# Altium integrated library TI Data Converters Analog to Digital Converter.IntLib: 2197 symbols (part 10 of 168)
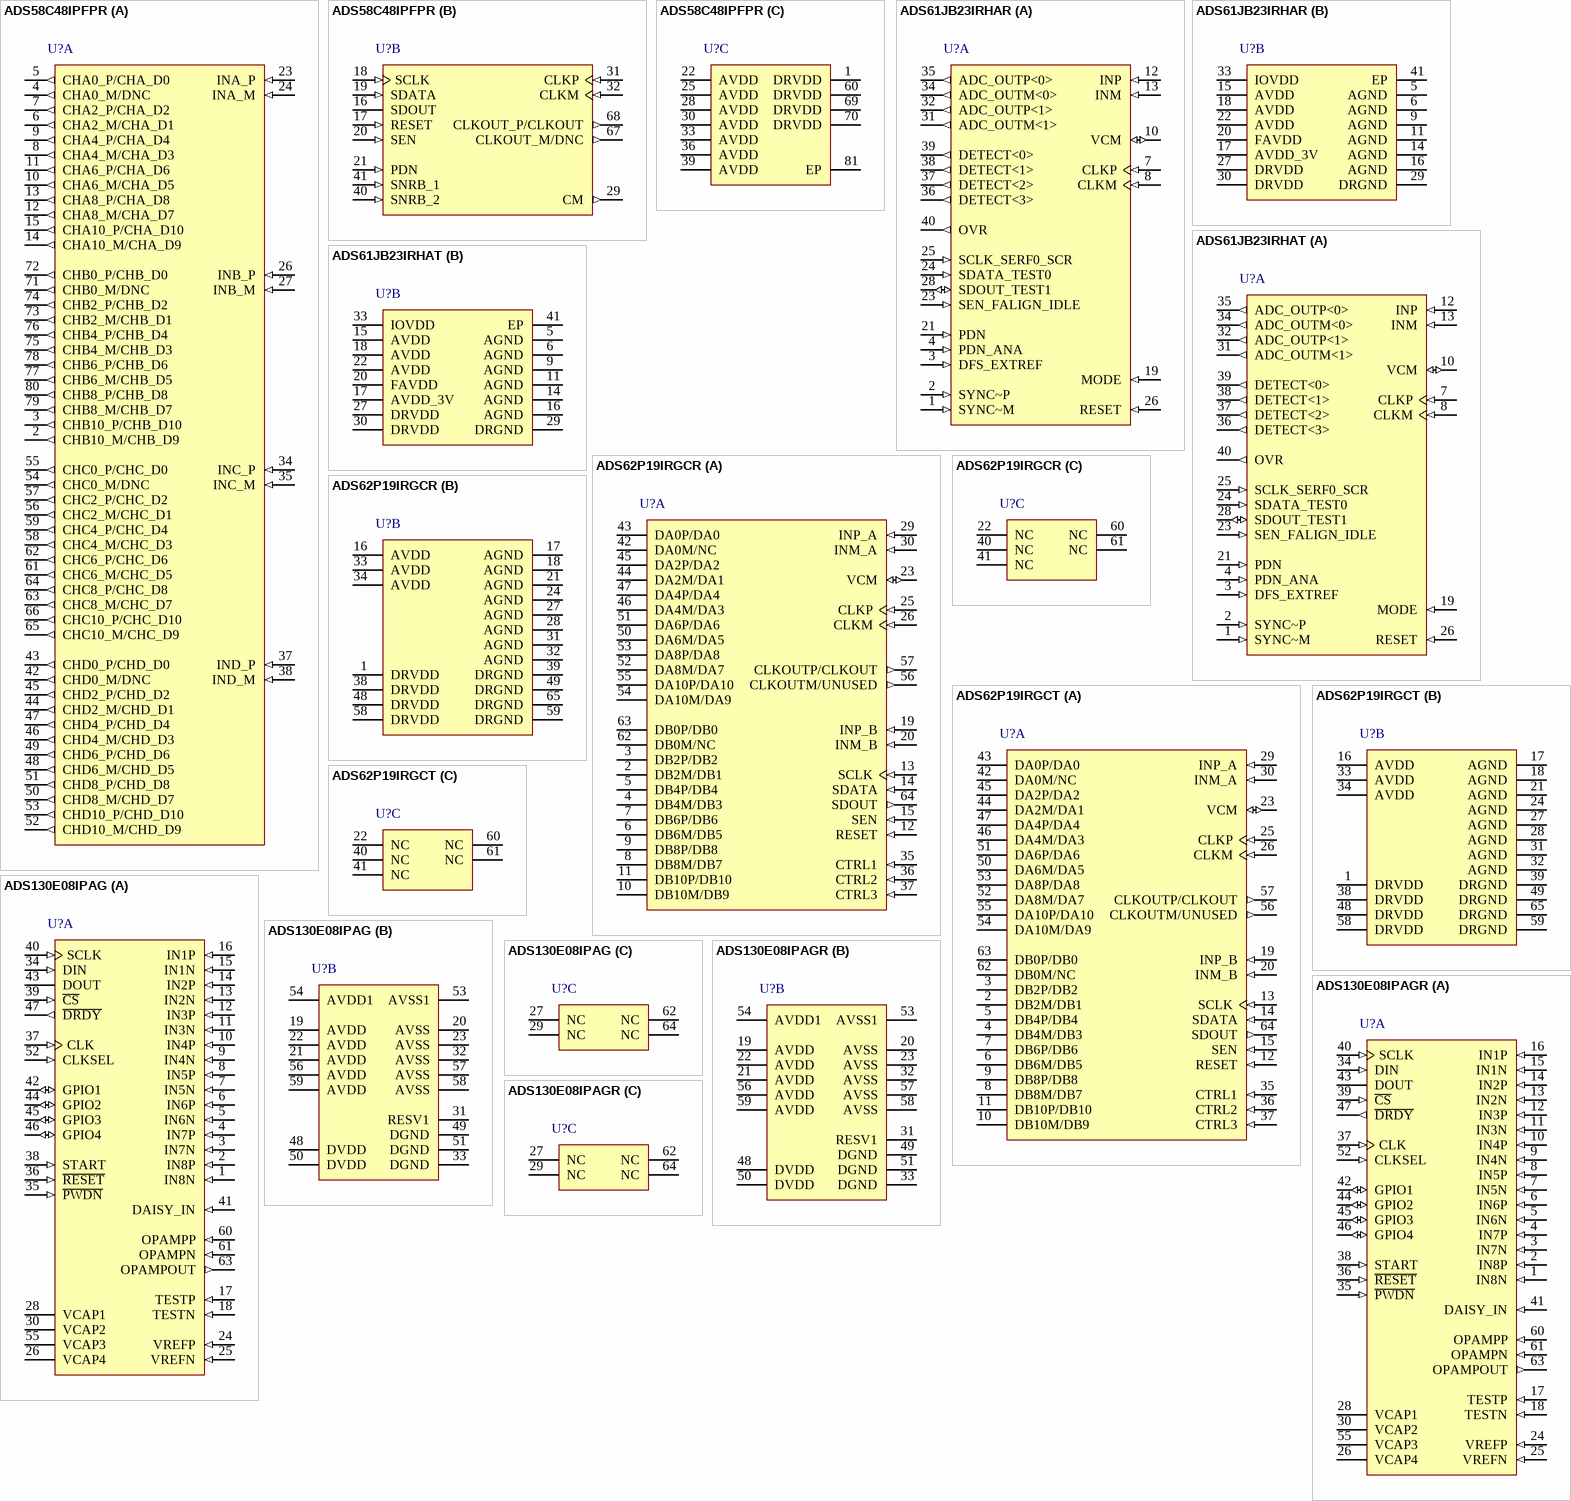
[diagram p135: symbols ADS58C48IPFPR to ADS130E08IPAGR]

## ADS61JB23IRHAR
designator U?
12-Bit Input-Buffered 80 MSPS ADC with Output Interface, -40 to 85 degC, 40-pin QFN (RHA40), Green (RoHS & no Sb/Br); Manufacturer: Texas Instruments; PartNumber: ADS61JB23IRHAR; # Input Channels: 1; Analog Voltage AV/DD(Max)(V): 1.9; Analog Voltage AV/DD(Min)(V): 1.7; Architecture: Pipeline; ENOB(Bits): 11.5; INL(Max)(+/-LSB): 1.5; Interface: JESD204A; Resolution(Bits): 12; Sample Rate(max)(SPS): 80M; SFDR(dB): 80; SINAD(dB): 71.2; SNR(dB): 71.7; SubFamily: High Speed ADC (>10MSPS); DatasheetVersion: SLOS755; PackageVersion: 4204276/E, 06/2011; PackageReference: RHA40-4500X4500TP; PackageDescription: 40-Pin Plastic Quad Flatpack No-Lead, Body 6 x 6 mm, Pitch 0.5 mm; Supplier 1: Digi-Key; Supplier Part Number 1: ADS1110A4IDBVRG4-ND; Supplier 2: Mouser; Supplier Part Number 2: 595-ADS1110A4IDBVRG4; Digital Supply(Max)(V): 1.9; Digital Supply(Min)(V): 1.7; Eco-Plan: Green (RoHS & no Sb/Br); Mounting Technology: Surface Mount; Code_JEDEC: MO-220; ComponentLink1Description: Manufacturer URL; ComponentLink1URL: http://www.ti.com/; ComponentLink2Description: Datasheet; ComponentLink2URL: http://www.ti.com/lit/ds/symlink/ads61jb23.pdf; ComponentLink3Description: Package Specification; ComponentLink3URL: http://www.ti.com/litv/pdf/mpqf135c
footprint TI-RHA40-4500X4500TP_V (QFN, 40-Leads, Body 6x6mm, Pitch 0.5mm, Thermal Pad 4.5x4.5mm)
part A pins: 1 SYNC~M (in) "JESD Synchronization request - Negative input", 2 SYNC~P (in) "JESD Synchronization request - Positive input", 3 DFS_EXTREF (in) "4-level analog control for Data Format select and Internal/ External reference mode", 4 PDN_ANA (in) "Analog section power down, JESD interface still active. This is referred to as fast recovery powerdown mode", 7 CLKP (in) "Conversion clock - Positive input", 8 CLKM (in) "Conversion clock - Negative input", 10 VCM (io) "Common mode output for setting input common mode: 1.95V, Reference input in external reference mode", 12 INP (in) "Analog input - Positive", 13 INM (in) "Analog input - Negative", 19 MODE (in) "4-level control for Serial interface/ Parallel interface modes selection", 21 PDN (in) "Full chip Powerdown (also referred to as Complete Powerdown mode)", 23 SEN_FALIGN_IDLE (in) "In Serial interface mode : Serial enable (Chip select) In parallel interface mode : 4-level control for JESD modes", 24 SDATA_TEST0 (in) "In Serial interface mode : Serial data input In parallel interface mode : JESD test mode", 25 SCLK_SERF0_SCR (in) "In Serial interface mode : Serial clock input In parallel interface mode : 4-level control for JESD modes (single/dual lane & scrambling)", 26 RESET (in) "Chip Reset input", 28 SDOUT_TEST1 (io) "In Serial interface mode : Serial data output (for register readout) In parallel interface mode : JESD test mode", 31 ADC_OUTM<1> (out) "CML output Lane 2 - Negative output", 32 ADC_OUTP<1> (out) "CML output Lane 2 - Positive output", 34 ADC_OUTM<0> (out) "CML output Lane 1 - Negative output", 35 ADC_OUTP<0> (out) "CML output Lane 1 - Positive output", 36 DETECT<3> (out) "Signal level detect output pins: Can be used to either output a 4-bit ADC code with low latency or to output a 16-level RMS power estimate", 37 DETECT<2> (out) "Signal level detect output pins: Can be used to either output a 4-bit ADC code with low latency or to output a 16-level RMS power estimate", 38 DETECT<1> (out) "Signal level detect output pins: Can be used to either output a 4-bit ADC code with low latency or to output a 16-level RMS power estimate", 39 DETECT<0> (out) "Signal level detect output pins: Can be used to either output a 4-bit ADC code with low latency or to output a 16-level RMS power estimate", 40 OVR (out) "Over-range output"
part B pins: 5 AGND (power) "Analog ground", 6 AGND (power) "Analog ground", 9 AGND (power) "Analog ground", 11 AGND (power) "Analog ground", 14 AGND (power) "Analog ground", 15 AVDD (power) "Analog supply, 1.8 V", 16 AGND (power) "Analog ground", 17 AVDD_3V (power) "Analog supply for input buffer, 3.3 V", 18 AVDD (power) "Analog supply, 1.8 V", 20 FAVDD (power) "Fuse supply - connect externally to AVDD, 1.8 V", 22 AVDD (power) "Analog supply, 1.8 V", 27 DRVDD (power) "Digital supply, 1.8 V", 29 DRGND (power) "Digital ground", 30 DRVDD (power) "Digital supply, 1.8 V", 33 IOVDD (power) "CML buffer supply - 1.2 V to 1.9 V", 41 EP (power) "Pad is connected to DRGND"

## ADS61JB23IRHAT
designator U?
12-Bit Input-Buffered 80 MSPS ADC with Output Interface, -40 to 85 degC, 40-pin QFN (RHA40), Green (RoHS & no Sb/Br); Manufacturer: Texas Instruments; PartNumber: ADS61JB23IRHAT; # Input Channels: 1; Analog Voltage AV/DD(Max)(V): 1.9; Analog Voltage AV/DD(Min)(V): 1.7; Architecture: Pipeline; ENOB(Bits): 11.5; INL(Max)(+/-LSB): 1.5; Interface: JESD204A; Resolution(Bits): 12; Sample Rate(max)(SPS): 80M; SFDR(dB): 80; SINAD(dB): 71.2; SNR(dB): 71.7; SubFamily: High Speed ADC (>10MSPS); DatasheetVersion: SLOS755; PackageVersion: 4204276/E, 06/2011; PackageReference: RHA40-4500X4500TP; PackageDescription: 40-Pin Plastic Quad Flatpack No-Lead, Body 6 x 6 mm, Pitch 0.5 mm; Supplier 1: Digi-Key; Supplier Part Number 1: 296-14465-2-ND; Supplier 2: Digi-Key; Supplier Part Number 2: 296-14465-1-ND; Supplier 3: Digi-Key; Supplier Part Number 3: 296-14465-6-ND; Supplier 4: Newark; Supplier Part Number 4: 61H4896; Supplier 5: Mouser; Supplier Part Number 5: 595-ADS1110A4IDBVT; Digital Supply(Max)(V): 1.9; Digital Supply(Min)(V): 1.7; Eco-Plan: Green (RoHS & no Sb/Br); Mounting Technology: Surface Mount; Code_JEDEC: MO-220; ComponentLink1Description: Manufacturer URL; ComponentLink1URL: http://www.ti.com/; ComponentLink2Description: Datasheet; ComponentLink2URL: http://www.ti.com/lit/ds/symlink/ads61jb23.pdf; ComponentLink3Description: Package Specification; ComponentLink3URL: http://www.ti.com/litv/pdf/mpqf135c
footprint TI-RHA40-4500X4500TP_V (QFN, 40-Leads, Body 6x6mm, Pitch 0.5mm, Thermal Pad 4.5x4.5mm)
part A pins: 1 SYNC~M (in) "JESD Synchronization request - Negative input", 2 SYNC~P (in) "JESD Synchronization request - Positive input", 3 DFS_EXTREF (in) "4-level analog control for Data Format select and Internal/ External reference mode", 4 PDN_ANA (in) "Analog section power down, JESD interface still active. This is referred to as fast recovery powerdown mode", 7 CLKP (in) "Conversion clock - Positive input", 8 CLKM (in) "Conversion clock - Negative input", 10 VCM (io) "Common mode output for setting input common mode: 1.95V, Reference input in external reference mode", 12 INP (in) "Analog input - Positive", 13 INM (in) "Analog input - Negative", 19 MODE (in) "4-level control for Serial interface/ Parallel interface modes selection", 21 PDN (in) "Full chip Powerdown (also referred to as Complete Powerdown mode)", 23 SEN_FALIGN_IDLE (in) "In Serial interface mode : Serial enable (Chip select) In parallel interface mode : 4-level control for JESD modes", 24 SDATA_TEST0 (in) "In Serial interface mode : Serial data input In parallel interface mode : JESD test mode", 25 SCLK_SERF0_SCR (in) "In Serial interface mode : Serial clock input In parallel interface mode : 4-level control for JESD modes (single/dual lane & scrambling)", 26 RESET (in) "Chip Reset input", 28 SDOUT_TEST1 (io) "In Serial interface mode : Serial data output (for register readout) In parallel interface mode : JESD test mode", 31 ADC_OUTM<1> (out) "CML output Lane 2 - Negative output", 32 ADC_OUTP<1> (out) "CML output Lane 2 - Positive output", 34 ADC_OUTM<0> (out) "CML output Lane 1 - Negative output", 35 ADC_OUTP<0> (out) "CML output Lane 1 - Positive output", 36 DETECT<3> (out) "Signal level detect output pins: Can be used to either output a 4-bit ADC code with low latency or to output a 16-level RMS power estimate", 37 DETECT<2> (out) "Signal level detect output pins: Can be used to either output a 4-bit ADC code with low latency or to output a 16-level RMS power estimate", 38 DETECT<1> (out) "Signal level detect output pins: Can be used to either output a 4-bit ADC code with low latency or to output a 16-level RMS power estimate", 39 DETECT<0> (out) "Signal level detect output pins: Can be used to either output a 4-bit ADC code with low latency or to output a 16-level RMS power estimate", 40 OVR (out) "Over-range output"
part B pins: 5 AGND (power) "Analog ground", 6 AGND (power) "Analog ground", 9 AGND (power) "Analog ground", 11 AGND (power) "Analog ground", 14 AGND (power) "Analog ground", 15 AVDD (power) "Analog supply, 1.8 V", 16 AGND (power) "Analog ground", 17 AVDD_3V (power) "Analog supply for input buffer, 3.3 V", 18 AVDD (power) "Analog supply, 1.8 V", 20 FAVDD (power) "Fuse supply - connect externally to AVDD, 1.8 V", 22 AVDD (power) "Analog supply, 1.8 V", 27 DRVDD (power) "Digital supply, 1.8 V", 29 DRGND (power) "Digital ground", 30 DRVDD (power) "Digital supply, 1.8 V", 33 IOVDD (power) "CML buffer supply - 1.2 V to 1.9 V", 41 EP (power) "Pad is connected to DRGND"

## ADS62P19IRGCR
designator U?
Dual Channel 11-Bit, 250 MSPS ADC with DDR LVDS and Parallel CMOS Output, -40 to 85 degC, 64-pin QFN (RGC64), Green (RoHS & no Sb/Br); Manufacturer: Texas Instruments; PartNumber: ADS62P19IRGCR; # Input Channels: 2; Analog Voltage AV/DD(Max)(V): 3.6; Analog Voltage AV/DD(Min)(V): 3.15; Architecture: Pipeline; Digital Supply(Max)(V): 1.9; Digital Supply(Min)(V): 1.7; ENOB(Bits): 10.6; INL(Max)(+/-LSB): 2.5; Interface: CMOS, DDR LVDS; Resolution(Bits): 11; Sample Rate(max)(SPS): 250M; SFDR(dB): 89; SINAD(dB): 66.5; SubFamily: High Speed ADC (>10MSPS); DatasheetVersion: SLAS937; PackageVersion: 4204106/F, 11/2011; PackageReference: RGC64-7400X7400TP; PackageDescription: 64-Pin Plastic Quad Flatpack No-Lead, Body 9 x 9 mm, Pitch 0.5 mm; Supplier 1: Digi-Key; Supplier Part Number 1: ADS1110A4IDBVTG4-ND; Supplier 2: Mouser; Supplier Part Number 2: 595-ADS1110A4IDBVTG4; Eco-Plan: Green (RoHS & no Sb/Br); SNR(dB): 66.5; Mounting Technology: Surface Mount; ComponentLink1Description: Manufacturer URL; ComponentLink1URL: http://www.ti.com/; ComponentLink2Description: Datasheet; ComponentLink2URL: http://www.ti.com/lit/ds/symlink/ads62p19.pdf; ComponentLink3Description: Package Specification; ComponentLink3URL: http://www.ti.com/litv/pdf/mpqf125e
footprint TI-RGC64-7400X7400TP_V (QFN, 64-Leads, Body 9x9mm, Pitch 0.5mm, Thermal Pad 7.4x7.4mm, TI Recommended)
part A pins: 2 DB2M/DB1 (hiz), 3 DB2P/DB2 (hiz), 4 DB4M/DB3 (hiz), 5 DB4P/DB4 (hiz), 6 DB6M/DB5 (hiz), 7 DB6P/DB6 (hiz), 8 DB8M/DB7 (hiz), 9 DB8P/DB8 (hiz), 10 DB10M/DB9 (hiz), 11 DB10P/DB10 (hiz), 12 RESET (in) "Serial interface RESET input. When using the serial interface mode, the internal registers must be initialized through a hardware RESET by applying a high-going pulse on this pin or by using a software reset option. Refer to (See Datasheet)", 13 SCLK (in) "This pin functions as a serial interface clock input when RESET is low. SCLK controls the internal or external reference selection when RESET is tied high. See Table 8 for detailed information. This pin has an internal 100-k (See Datasheet)", 14 SDATA (in) "Serial interface data input. This pin has an internal 100-k ohm pull-down resistor. SDATA has no function in parallel interface mode and can be tied to ground.", 15 SEN (in) "This pin functions as a serial interface enable input when RESET is low. SEN controls data format and interface type selection when RESET is tied high. See Table 9 for detailed information. This pin has an internal 100-k ohm (See Datasheet)", 19 INP_B (in) "Differential analog input, channel B", 20 INM_B (in) "Differential analog input, channel B", 23 VCM (io) "Internal reference mode. Common-mode voltage output. External reference mode. Reference input; the voltage forced on this pin sets the internal references.", 25 CLKP (in) "Differential clock input", 26 CLKM (in) "Differential clock input", 29 INP_A (in) "Differential analog input, channel A", 30 INM_A (in) "Differential analog input, channel A", 35 CTRL1 (in) "Digital control input pins. Together, these pins control various power-down modes. Each pin has an internal 100-k ohm pull-down resistor.", 36 CTRL2 (in) "Digital control input pins. Together, these pins control various power-down modes. Each pin has an internal 100-k ohm pull-down resistor.", 37 CTRL3 (in) "Digital control input pins. Together, these pins control various power-down modes. Each pin has an internal 100-k ohm pull-down resistor.", 42 DA0M/NC (hiz), 43 DA0P/DA0 (hiz), 44 DA2M/DA1 (hiz), 45 DA2P/DA2 (hiz), 46 DA4M/DA3 (hiz), 47 DA4P/DA4 (hiz), 50 DA6M/DA5 (hiz), 51 DA6P/DA6 (hiz), 52 DA8M/DA7 (hiz), 53 DA8P/DA8 (hiz), 54 DA10M/DA9 (hiz), 55 DA10P/DA10 (hiz), 56 CLKOUTM/UNUSED (out), 57 CLKOUTP/CLKOUT (out) "Differential output clock, true", 62 DB0M/NC (hiz), 63 DB0P/DB0 (hiz), 64 SDOUT (out) "This pin functions as a serial interface register readout when the SERIAL READOUT bit is enabled. When SERIAL READOUT is '0', this pin forces a logic low and is not 3- stated."
part B pins: 1 DRVDD (power) "Output buffer supply", 16 AVDD (power) "Analog power supply", 17 AGND (power) "Analog ground", 18 AGND (power) "Analog ground", 21 AGND (power) "Analog ground", 24 AGND (power) "Analog ground", 27 AGND (power) "Analog ground", 28 AGND (power) "Analog ground", 31 AGND (power) "Analog ground", 32 AGND (power) "Analog ground", 33 AVDD (power) "Analog power supply", 34 AVDD (power) "Analog power supply", 38 DRVDD (power) "Output buffer supply", 39 DRGND (power) "Output buffer ground", 48 DRVDD (power) "Output buffer supply", 49 DRGND (power) "Output buffer ground", 58 DRVDD (power) "Output buffer supply", 59 DRGND (power) "Output buffer ground", 65 DRGND (power) "Output buffer ground"
part C pins: 22 NC "Do not connect", 40 NC "Do not connect", 41 NC "Do not connect", 60 NC "Do not connect", 61 NC "Do not connect"

## ADS62P19IRGCT
designator U?
Dual Channel 11-Bit, 250 MSPS ADC with DDR LVDS and Parallel CMOS Output, -40 to 85 degC, 64-pin QFN (RGC64), Green (RoHS & no Sb/Br); Manufacturer: Texas Instruments; PartNumber: ADS62P19IRGCT; # Input Channels: 2; Analog Voltage AV/DD(Max)(V): 3.6; Analog Voltage AV/DD(Min)(V): 3.15; Architecture: Pipeline; Digital Supply(Max)(V): 1.9; Digital Supply(Min)(V): 1.7; ENOB(Bits): 10.6; INL(Max)(+/-LSB): 2.5; Interface: CMOS, DDR LVDS; Resolution(Bits): 11; Sample Rate(max)(SPS): 250M; SFDR(dB): 89; SINAD(dB): 66.5; SubFamily: High Speed ADC (>10MSPS); DatasheetVersion: SLAS937; PackageVersion: 4204106/F, 11/2011; PackageReference: RGC64-7400X7400TP; PackageDescription: 64-Pin Plastic Quad Flatpack No-Lead, Body 9 x 9 mm, Pitch 0.5 mm; Supplier 1: Digi-Key; Supplier Part Number 1: ADS1110A5IDBVR-ND; Supplier 2: Mouser; Supplier Part Number 2: 595-ADS1110A5IDBVR; Eco-Plan: Green (RoHS & no Sb/Br); SNR(dB): 66.5; Mounting Technology: Surface Mount; ComponentLink1Description: Manufacturer URL; ComponentLink1URL: http://www.ti.com/; ComponentLink2Description: Datasheet; ComponentLink2URL: http://www.ti.com/lit/ds/symlink/ads62p19.pdf; ComponentLink3Description: Package Specification; ComponentLink3URL: http://www.ti.com/litv/pdf/mpqf125e
footprint TI-RGC64-7400X7400TP_V (QFN, 64-Leads, Body 9x9mm, Pitch 0.5mm, Thermal Pad 7.4x7.4mm, TI Recommended)
part A pins: 2 DB2M/DB1 (hiz), 3 DB2P/DB2 (hiz), 4 DB4M/DB3 (hiz), 5 DB4P/DB4 (hiz), 6 DB6M/DB5 (hiz), 7 DB6P/DB6 (hiz), 8 DB8M/DB7 (hiz), 9 DB8P/DB8 (hiz), 10 DB10M/DB9 (hiz), 11 DB10P/DB10 (hiz), 12 RESET (in) "Serial interface RESET input. When using the serial interface mode, the internal registers must be initialized through a hardware RESET by applying a high-going pulse on this pin or by using a software reset option. Refer to (See Datasheet)", 13 SCLK (in) "This pin functions as a serial interface clock input when RESET is low. SCLK controls the internal or external reference selection when RESET is tied high. See Table 8 for detailed information. This pin has an internal 100-k (See Datasheet)", 14 SDATA (in) "Serial interface data input. This pin has an internal 100-k ohm pull-down resistor. SDATA has no function in parallel interface mode and can be tied to ground.", 15 SEN (in) "This pin functions as a serial interface enable input when RESET is low. SEN controls data format and interface type selection when RESET is tied high. See Table 9 for detailed information. This pin has an internal 100-k ohm (See Datasheet)", 19 INP_B (in) "Differential analog input, channel B", 20 INM_B (in) "Differential analog input, channel B", 23 VCM (io) "Internal reference mode. Common-mode voltage output. External reference mode. Reference input; the voltage forced on this pin sets the internal references.", 25 CLKP (in) "Differential clock input", 26 CLKM (in) "Differential clock input", 29 INP_A (in) "Differential analog input, channel A", 30 INM_A (in) "Differential analog input, channel A", 35 CTRL1 (in) "Digital control input pins. Together, these pins control various power-down modes. Each pin has an internal 100-k ohm pull-down resistor.", 36 CTRL2 (in) "Digital control input pins. Together, these pins control various power-down modes. Each pin has an internal 100-k ohm pull-down resistor.", 37 CTRL3 (in) "Digital control input pins. Together, these pins control various power-down modes. Each pin has an internal 100-k ohm pull-down resistor.", 42 DA0M/NC (hiz), 43 DA0P/DA0 (hiz), 44 DA2M/DA1 (hiz), 45 DA2P/DA2 (hiz), 46 DA4M/DA3 (hiz), 47 DA4P/DA4 (hiz), 50 DA6M/DA5 (hiz), 51 DA6P/DA6 (hiz), 52 DA8M/DA7 (hiz), 53 DA8P/DA8 (hiz), 54 DA10M/DA9 (hiz), 55 DA10P/DA10 (hiz), 56 CLKOUTM/UNUSED (out), 57 CLKOUTP/CLKOUT (out) "Differential output clock, true", 62 DB0M/NC (hiz), 63 DB0P/DB0 (hiz), 64 SDOUT (out) "This pin functions as a serial interface register readout when the SERIAL READOUT bit is enabled. When SERIAL READOUT is '0', this pin forces a logic low and is not 3- stated."
part B pins: 1 DRVDD (power) "Output buffer supply", 16 AVDD (power) "Analog power supply", 17 AGND (power) "Analog ground", 18 AGND (power) "Analog ground", 21 AGND (power) "Analog ground", 24 AGND (power) "Analog ground", 27 AGND (power) "Analog ground", 28 AGND (power) "Analog ground", 31 AGND (power) "Analog ground", 32 AGND (power) "Analog ground", 33 AVDD (power) "Analog power supply", 34 AVDD (power) "Analog power supply", 38 DRVDD (power) "Output buffer supply", 39 DRGND (power) "Output buffer ground", 48 DRVDD (power) "Output buffer supply", 49 DRGND (power) "Output buffer ground", 58 DRVDD (power) "Output buffer supply", 59 DRGND (power) "Output buffer ground", 65 DRGND (power) "Output buffer ground"
part C pins: 22 NC "Do not connect", 40 NC "Do not connect", 41 NC "Do not connect", 60 NC "Do not connect", 61 NC "Do not connect"

## ADS130E08IPAG
designator U?
Low-Cost, 8-Channel, Integrated Analog Front-End for Metering Applications, -40 to 105 degC, 64-pin QFP (PAG64), Green (RoHS & no Sb/Br); Manufacturer: Texas Instruments; PartNumber: ADS130E08IPAG; # Input Channels: 8; Analog Voltage AV/DD(Max)(V): 5.25; Analog Voltage AV/DD(Min)(V): 2.7; Architecture: Delta-Sigma; Digital Supply(Max)(V): 3.6; Digital Supply(Min)(V): 1.7; Interface: Serial SPI; Resolution(Bits): 16; Sample Rate(max)(SPS): 8k; SNR(dB): 89; SubFamily: Precision ADC (<=10MSPS); DatasheetVersion: SBAS574A; PackageVersion: 4040282/C, 11/1996; PackageReference: PAG64; PackageDescription: 64-Pin Plastic Flat Pack, Body 10 x 10 mm, Pitch 0.50 mm; Supplier 1: Digi-Key; Supplier Part Number 1: ADS1110A5IDBVRG4-ND; Supplier 2: Mouser; Supplier Part Number 2: 595-ADS1110A5IDBVRG4; Eco-Plan: Green (RoHS & no Sb/Br); Mounting Technology: Surface Mount; Code_JEDEC: MS-026; ComponentLink1Description: Manufacturer URL; ComponentLink1URL: http://www.ti.com/; ComponentLink2Description: Datasheet; ComponentLink2URL: http://www.ti.com/lit/ds/symlink/ads130e08.pdf; ComponentLink3Description: Package Specification; ComponentLink3URL: http://www.ti.com/lit/ml/mtqf006a/mtqf006a.pdf
footprint TI-PAG64_N (QFP, 64-Leads, Body 10x10mm, Pitch 0.5mm, IPC Medium Density)
footprint TI-PAG64_L (QFP, 64-Leads, Body 10x10mm, Pitch 0.5mm, IPC High Density)
footprint TI-PAG64_M (QFP, 64-Leads, Body 10x10mm, Pitch 0.5mm, IPC Low Density)
part A pins: 1 IN8N (in) "Differential analog negative input 8", 2 IN8P (in) "Differential analog positive input 8", 3 IN7N (in) "Differential analog negative input 7", 4 IN7P (in) "Differential analog positive input 7", 5 IN6N (in) "Differential analog negative input 6", 6 IN6P (in) "Differential analog positive input 6", 7 IN5N (in) "Differential analog negative input 5", 8 IN5P (in) "Differential analog positive input 5", 9 IN4N (in) "Differential analog negative input 4", 10 IN4P (in) "Differential analog positive input 4", 11 IN3N (in) "Differential analog negative input 3", 12 IN3P (in) "Differential analog positive input 3", 13 IN2N (in) "Differential analog negative input 2", 14 IN2P (in) "Differential analog positive input 2", 15 IN1N (in) "Differential analog negative input 1", 16 IN1P (in) "Differential analog positive input 1", 17 TESTP (in) "Internal test signal, positive signal", 18 TESTN (in) "Internal test signal, negative signal", 24 VREFP (in) "Positive reference voltage", 25 VREFN (in) "Negative reference voltage", 26 VCAP4 "Analog bypass capacitor", 28 VCAP1 "Analog bypass capacitor", 30 VCAP2 "Analog bypass capacitor", 34 DIN (in) "SPI data in", 35 ~{PWDN} (in) "Power-down; active low", 36 ~{RESET} (in) "System reset; active low", 37 CLK (in) "Master clock input", 38 START (in) "Start conversion", 39 ~{CS} (in) "SPI chip select; active low", 40 SCLK (in) "SPI clock", 41 DAISY_IN (in) "Daisy-chain input", 42 GPIO1 (io) "General-purpose input/output pin", 43 DOUT (hiz) "SPI data out", 44 GPIO2 (io) "General-purpose input/output pin", 45 GPIO3 (io) "General-purpose input/output pin", 46 GPIO4 (io) "General-purpose input/output pin", 47 ~{DRDY} (out) "Data ready; active low", 52 CLKSEL (in) "Master clock select", 55 VCAP3 "Analog bypass capacitor", 60 OPAMPP (in) "Op amp noninverting input", 61 OPAMPN (in) "Op amp inverting input", 63 OPAMPOUT (out) "Op amp output"
part B pins: 19 AVDD (power) "Analog supply", 20 AVSS (power) "Analog ground", 21 AVDD (power) "Analog supply", 22 AVDD (power) "Analog supply", 23 AVSS (power) "Analog ground", 31 RESV1 (power) "Reserved for future use; must tie to logic low (DGND)", 32 AVSS (power) "Analog ground", 33 DGND (power) "Digital ground", 48 DVDD (power) "Digital power supply", 49 DGND (power) "Digital ground", 50 DVDD (power) "Digital power supply", 51 DGND (power) "Digital ground", 53 AVSS1 (power) "Charge pump analog ground", 54 AVDD1 (power) "Charge pump analog supply", 56 AVDD (power) "Analog supply", 57 AVSS (power) "Analog ground", 58 AVSS (power) "Analog ground", 59 AVDD (power) "Analog supply"
part C pins: 27 NC "No connection, leave floating", 29 NC "No connection, leave floating", 62 NC "No connection, leave floating", 64 NC "No connection, leave floating"

## ADS130E08IPAGR
designator U?
Low-Cost, 8-Channel, Integrated Analog Front-End for Metering Applications, -40 to 105 degC, 64-pin QFP (PAG64), Green (RoHS & no Sb/Br); Manufacturer: Texas Instruments; PartNumber: ADS130E08IPAGR; # Input Channels: 8; Analog Voltage AV/DD(Max)(V): 5.25; Analog Voltage AV/DD(Min)(V): 2.7; Architecture: Delta-Sigma; Digital Supply(Max)(V): 3.6; Digital Supply(Min)(V): 1.7; Interface: Serial SPI; Resolution(Bits): 16; Sample Rate(max)(SPS): 8k; SNR(dB): 89; SubFamily: Precision ADC (<=10MSPS); DatasheetVersion: SBAS574A; PackageVersion: 4040282/C, 11/1996; PackageReference: PAG64; PackageDescription: 64-Pin Plastic Flat Pack, Body 10 x 10 mm, Pitch 0.50 mm; Supplier 1: Digi-Key; Supplier Part Number 1: 296-14466-2-ND; Supplier 2: Digi-Key; Supplier Part Number 2: 296-14466-1-ND; Supplier 3: Digi-Key; Supplier Part Number 3: 296-14466-6-ND; Supplier 4: Mouser; Supplier Part Number 4: 595-ADS1110A5IDBVT; Eco-Plan: Green (RoHS & no Sb/Br); Mounting Technology: Surface Mount; Code_JEDEC: MS-026; ComponentLink1Description: Manufacturer URL; ComponentLink1URL: http://www.ti.com/; ComponentLink2Description: Datasheet; ComponentLink2URL: http://www.ti.com/lit/ds/symlink/ads130e08.pdf; ComponentLink3Description: Package Specification; ComponentLink3URL: http://www.ti.com/lit/ml/mtqf006a/mtqf006a.pdf
footprint TI-PAG64_N (QFP, 64-Leads, Body 10x10mm, Pitch 0.5mm, IPC Medium Density)
footprint TI-PAG64_L (QFP, 64-Leads, Body 10x10mm, Pitch 0.5mm, IPC High Density)
footprint TI-PAG64_M (QFP, 64-Leads, Body 10x10mm, Pitch 0.5mm, IPC Low Density)
part A pins: 1 IN8N (in) "Differential analog negative input 8", 2 IN8P (in) "Differential analog positive input 8", 3 IN7N (in) "Differential analog negative input 7", 4 IN7P (in) "Differential analog positive input 7", 5 IN6N (in) "Differential analog negative input 6", 6 IN6P (in) "Differential analog positive input 6", 7 IN5N (in) "Differential analog negative input 5", 8 IN5P (in) "Differential analog positive input 5", 9 IN4N (in) "Differential analog negative input 4", 10 IN4P (in) "Differential analog positive input 4", 11 IN3N (in) "Differential analog negative input 3", 12 IN3P (in) "Differential analog positive input 3", 13 IN2N (in) "Differential analog negative input 2", 14 IN2P (in) "Differential analog positive input 2", 15 IN1N (in) "Differential analog negative input 1", 16 IN1P (in) "Differential analog positive input 1", 17 TESTP (in) "Internal test signal, positive signal", 18 TESTN (in) "Internal test signal, negative signal", 24 VREFP (in) "Positive reference voltage", 25 VREFN (in) "Negative reference voltage", 26 VCAP4 "Analog bypass capacitor", 28 VCAP1 "Analog bypass capacitor", 30 VCAP2 "Analog bypass capacitor", 34 DIN (in) "SPI data in", 35 ~{PWDN} (in) "Power-down; active low", 36 ~{RESET} (in) "System reset; active low", 37 CLK (in) "Master clock input", 38 START (in) "Start conversion", 39 ~{CS} (in) "SPI chip select; active low", 40 SCLK (in) "SPI clock", 41 DAISY_IN (in) "Daisy-chain input", 42 GPIO1 (io) "General-purpose input/output pin", 43 DOUT (hiz) "SPI data out", 44 GPIO2 (io) "General-purpose input/output pin", 45 GPIO3 (io) "General-purpose input/output pin", 46 GPIO4 (io) "General-purpose input/output pin", 47 ~{DRDY} (out) "Data ready; active low", 52 CLKSEL (in) "Master clock select", 55 VCAP3 "Analog bypass capacitor", 60 OPAMPP (in) "Op amp noninverting input", 61 OPAMPN (in) "Op amp inverting input", 63 OPAMPOUT (out) "Op amp output"
part B pins: 19 AVDD (power) "Analog supply", 20 AVSS (power) "Analog ground", 21 AVDD (power) "Analog supply", 22 AVDD (power) "Analog supply", 23 AVSS (power) "Analog ground", 31 RESV1 (power) "Reserved for future use; must tie to logic low (DGND)", 32 AVSS (power) "Analog ground", 33 DGND (power) "Digital ground", 48 DVDD (power) "Digital power supply", 49 DGND (power) "Digital ground", 50 DVDD (power) "Digital power supply", 51 DGND (power) "Digital ground", 53 AVSS1 (power) "Charge pump analog ground", 54 AVDD1 (power) "Charge pump analog supply", 56 AVDD (power) "Analog supply", 57 AVSS (power) "Analog ground", 58 AVSS (power) "Analog ground", 59 AVDD (power) "Analog supply"
part C pins: 27 NC "No connection, leave floating", 29 NC "No connection, leave floating", 62 NC "No connection, leave floating", 64 NC "No connection, leave floating"

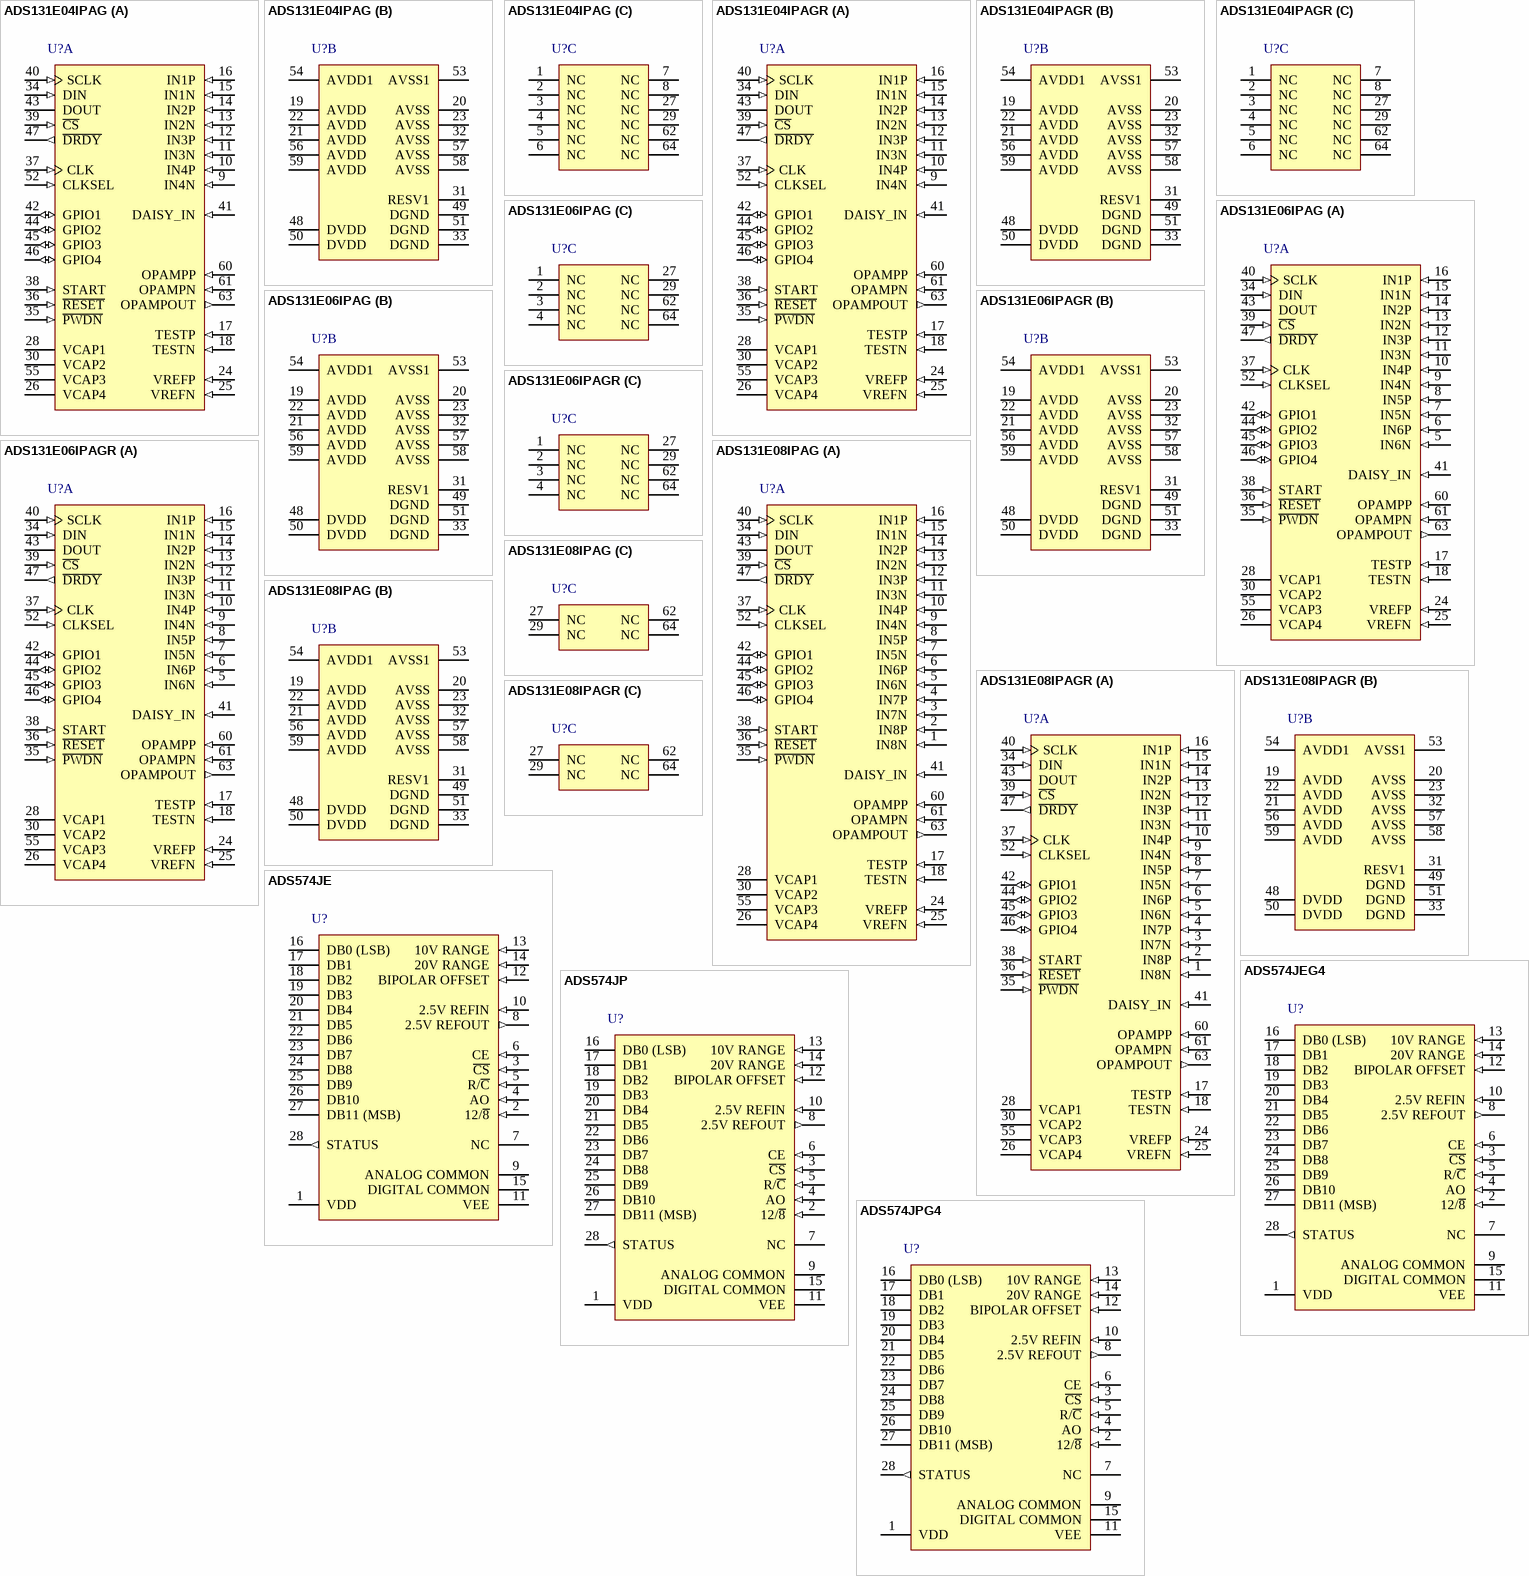
[diagram p6: symbols ADS131E04IPAG to ADS574JPG4]

## ADS131E04IPAG
designator U?
Analog Front-End for Power Monitoring, Control and Protection, -40 to 105 degC, 64-pin QFP (PAG64), Green (RoHS & no Sb/Br); Manufacturer: Texas Instruments; PartNumber: ADS131E04IPAG; # Input Channels: 4; Analog Voltage AV/DD(Max)(V): 5.25; Analog Voltage AV/DD(Min)(V): 2.7; Architecture: Delta-Sigma; Digital Supply(Max)(V): 3.6; Digital Supply(Min)(V): 1.8; Interface: Serial SPI; Resolution(Bits): 16; Sample Rate(max)(SPS): 64k; SNR(dB): 107; SubFamily: Precision ADC (<=10MSPS); DatasheetVersion: SBAS561A; PackageVersion: 4040282/C, 11/1996; PackageReference: PAG64; PackageDescription: 64-Pin Plastic Flat Pack, Body 10 x 10 mm, Pitch 0.50 mm; Supplier 1: Digi-Key; Supplier Part Number 1: ADS1110A5IDBVTG4-ND; Supplier 2: Newark; Supplier Part Number 2: 67K7829; Supplier 3: Mouser; Supplier Part Number 3: 595-ADS1110A5IDBVTG4; Eco-Plan: Green (RoHS & no Sb/Br); Mounting Technology: Surface Mount; Code_JEDEC: MS-026; ComponentLink1Description: Manufacturer URL; ComponentLink1URL: http://www.ti.com/; ComponentLink2Description: Datasheet; ComponentLink2URL: http://www.ti.com/lit/ds/symlink/ads131e04.pdf; ComponentLink3Description: Package Specification; ComponentLink3URL: http://www.ti.com/lit/ml/mtqf006a/mtqf006a.pdf
footprint TI-PAG64_N (QFP, 64-Leads, Body 10x10mm, Pitch 0.5mm, IPC Medium Density)
footprint TI-PAG64_L (QFP, 64-Leads, Body 10x10mm, Pitch 0.5mm, IPC High Density)
footprint TI-PAG64_M (QFP, 64-Leads, Body 10x10mm, Pitch 0.5mm, IPC Low Density)
part A pins: 9 IN4N (in) "Differential analog negative input 4", 10 IN4P (in) "Differential analog positive input 4", 11 IN3N (in) "Differential analog negative input 3", 12 IN3P (in) "Differential analog positive input 3", 13 IN2N (in) "Differential analog negative input 2", 14 IN2P (in) "Differential analog positive input 2", 15 IN1N (in) "Differential analog negative input 1", 16 IN1P (in) "Differential analog positive input 1", 17 TESTP (in) "Internal test signal, positive signal", 18 TESTN (in) "Internal test signal, negative signal", 24 VREFP (in) "Positive reference voltage", 25 VREFN (in) "Negative reference voltage", 26 VCAP4 "Analog bypass capacitor", 28 VCAP1 "Analog bypass capacitor", 30 VCAP2 "Analog bypass capacitor", 34 DIN (in) "SPI data in", 35 ~{PWDN} (in) "Power-down; active low", 36 ~{RESET} (in) "System reset; active low", 37 CLK (in) "Master clock input", 38 START (in) "Start conversion", 39 ~{CS} (in) "SPI chip select; active low", 40 SCLK (in) "SPI clock", 41 DAISY_IN (in) "Daisy-chain input", 42 GPIO1 (io) "General-purpose input/output pin", 43 DOUT (hiz) "SPI data out", 44 GPIO2 (io) "General-purpose input/output pin", 45 GPIO3 (io) "General-purpose input/output pin", 46 GPIO4 (io) "General-purpose input/output pin", 47 ~{DRDY} (out) "Data ready; active low", 52 CLKSEL (in) "Master clock select", 55 VCAP3 "Analog bypass capacitor", 60 OPAMPP (in) "Op amp noninverting input", 61 OPAMPN (in) "Op amp inverting input", 63 OPAMPOUT (out) "Op amp output"
part B pins: 19 AVDD (power) "Analog supply", 20 AVSS (power) "Analog ground", 21 AVDD (power) "Analog supply", 22 AVDD (power) "Analog supply", 23 AVSS (power) "Analog ground", 31 RESV1 (power) "Reserved for future use; must tie to logic low (DGND)", 32 AVSS (power) "Analog ground", 33 DGND (power) "Digital ground", 48 DVDD (power) "Digital power supply", 49 DGND (power) "Digital ground", 50 DVDD (power) "Digital power supply", 51 DGND (power) "Digital ground", 53 AVSS1 (power) "Charge pump analog ground", 54 AVDD1 (power) "Charge pump analog supply", 56 AVDD (power) "Analog supply", 57 AVSS (power) "Analog ground", 58 AVSS (power) "Analog ground", 59 AVDD (power) "Analog supply"
part C pins: 1 NC "No connection, leave floating", 2 NC "No connection, leave floating", 3 NC "No connection, leave floating", 4 NC "No connection, leave floating", 5 NC "No connection, leave floating", 6 NC "No connection, leave floating", 7 NC "No connection, leave floating", 8 NC "No connection, leave floating", 27 NC "No connection, leave floating", 29 NC "No connection, leave floating", 62 NC "No connection, leave floating", 64 NC "No connection, leave floating"

## ADS131E04IPAGR
designator U?
Analog Front-End for Power Monitoring, Control and Protection, -40 to 105 degC, 64-pin QFP (PAG64), Green (RoHS & no Sb/Br); Manufacturer: Texas Instruments; PartNumber: ADS131E04IPAGR; # Input Channels: 4; Analog Voltage AV/DD(Max)(V): 5.25; Analog Voltage AV/DD(Min)(V): 2.7; Architecture: Delta-Sigma; Digital Supply(Max)(V): 3.6; Digital Supply(Min)(V): 1.8; Interface: Serial SPI; Resolution(Bits): 16; Sample Rate(max)(SPS): 64k; SNR(dB): 107; SubFamily: Precision ADC (<=10MSPS); DatasheetVersion: SBAS561A; PackageVersion: 4040282/C, 11/1996; PackageReference: PAG64; PackageDescription: 64-Pin Plastic Flat Pack, Body 10 x 10 mm, Pitch 0.50 mm; Supplier 1: Digi-Key; Supplier Part Number 1: 296-14467-2-ND; Supplier 2: Digi-Key; Supplier Part Number 2: 296-14467-1-ND; Supplier 3: Digi-Key; Supplier Part Number 3: 296-14467-6-ND; Supplier 4: Mouser; Supplier Part Number 4: 595-ADS1110A6IDBVT; Eco-Plan: Green (RoHS & no Sb/Br); Mounting Technology: Surface Mount; Code_JEDEC: MS-026; ComponentLink1Description: Manufacturer URL; ComponentLink1URL: http://www.ti.com/; ComponentLink2Description: Datasheet; ComponentLink2URL: http://www.ti.com/lit/ds/symlink/ads131e04.pdf; ComponentLink3Description: Package Specification; ComponentLink3URL: http://www.ti.com/lit/ml/mtqf006a/mtqf006a.pdf
footprint TI-PAG64_N (QFP, 64-Leads, Body 10x10mm, Pitch 0.5mm, IPC Medium Density)
footprint TI-PAG64_L (QFP, 64-Leads, Body 10x10mm, Pitch 0.5mm, IPC High Density)
footprint TI-PAG64_M (QFP, 64-Leads, Body 10x10mm, Pitch 0.5mm, IPC Low Density)
part A pins: 9 IN4N (in) "Differential analog negative input 4", 10 IN4P (in) "Differential analog positive input 4", 11 IN3N (in) "Differential analog negative input 3", 12 IN3P (in) "Differential analog positive input 3", 13 IN2N (in) "Differential analog negative input 2", 14 IN2P (in) "Differential analog positive input 2", 15 IN1N (in) "Differential analog negative input 1", 16 IN1P (in) "Differential analog positive input 1", 17 TESTP (in) "Internal test signal, positive signal", 18 TESTN (in) "Internal test signal, negative signal", 24 VREFP (in) "Positive reference voltage", 25 VREFN (in) "Negative reference voltage", 26 VCAP4 "Analog bypass capacitor", 28 VCAP1 "Analog bypass capacitor", 30 VCAP2 "Analog bypass capacitor", 34 DIN (in) "SPI data in", 35 ~{PWDN} (in) "Power-down; active low", 36 ~{RESET} (in) "System reset; active low", 37 CLK (in) "Master clock input", 38 START (in) "Start conversion", 39 ~{CS} (in) "SPI chip select; active low", 40 SCLK (in) "SPI clock", 41 DAISY_IN (in) "Daisy-chain input", 42 GPIO1 (io) "General-purpose input/output pin", 43 DOUT (hiz) "SPI data out", 44 GPIO2 (io) "General-purpose input/output pin", 45 GPIO3 (io) "General-purpose input/output pin", 46 GPIO4 (io) "General-purpose input/output pin", 47 ~{DRDY} (out) "Data ready; active low", 52 CLKSEL (in) "Master clock select", 55 VCAP3 "Analog bypass capacitor", 60 OPAMPP (in) "Op amp noninverting input", 61 OPAMPN (in) "Op amp inverting input", 63 OPAMPOUT (out) "Op amp output"
part B pins: 19 AVDD (power) "Analog supply", 20 AVSS (power) "Analog ground", 21 AVDD (power) "Analog supply", 22 AVDD (power) "Analog supply", 23 AVSS (power) "Analog ground", 31 RESV1 (power) "Reserved for future use; must tie to logic low (DGND)", 32 AVSS (power) "Analog ground", 33 DGND (power) "Digital ground", 48 DVDD (power) "Digital power supply", 49 DGND (power) "Digital ground", 50 DVDD (power) "Digital power supply", 51 DGND (power) "Digital ground", 53 AVSS1 (power) "Charge pump analog ground", 54 AVDD1 (power) "Charge pump analog supply", 56 AVDD (power) "Analog supply", 57 AVSS (power) "Analog ground", 58 AVSS (power) "Analog ground", 59 AVDD (power) "Analog supply"
part C pins: 1 NC "No connection, leave floating", 2 NC "No connection, leave floating", 3 NC "No connection, leave floating", 4 NC "No connection, leave floating", 5 NC "No connection, leave floating", 6 NC "No connection, leave floating", 7 NC "No connection, leave floating", 8 NC "No connection, leave floating", 27 NC "No connection, leave floating", 29 NC "No connection, leave floating", 62 NC "No connection, leave floating", 64 NC "No connection, leave floating"

## ADS131E06IPAG
designator U?
Analog Front-End for Power Monitoring, Control and Protection, -40 to 105 degC, 64-pin QFP (PAG64), Green (RoHS & no Sb/Br); Manufacturer: Texas Instruments; PartNumber: ADS131E06IPAG; # Input Channels: 6; Analog Voltage AV/DD(Max)(V): 5.25; Analog Voltage AV/DD(Min)(V): 2.7; Architecture: Delta-Sigma; Digital Supply(Max)(V): 3.6; Digital Supply(Min)(V): 1.8; Interface: Serial SPI; Resolution(Bits): 16; Sample Rate(max)(SPS): 64k; SNR(dB): 107; SubFamily: Precision ADC (<=10MSPS); DatasheetVersion: SBAS561A; PackageVersion: 4040282/C, 11/1996; PackageReference: PAG64; PackageDescription: 64-Pin Plastic Flat Pack, Body 10 x 10 mm, Pitch 0.50 mm; Supplier 1: Digi-Key; Supplier Part Number 1: ADS1110A6IDBVTG4-ND; Supplier 2: Mouser; Supplier Part Number 2: 595-ADS1110A6IDBVTG4; Eco-Plan: Green (RoHS & no Sb/Br); Mounting Technology: Surface Mount; Code_JEDEC: MS-026; ComponentLink1Description: Manufacturer URL; ComponentLink1URL: http://www.ti.com/; ComponentLink2Description: Datasheet; ComponentLink2URL: http://www.ti.com/lit/ds/symlink/ads131e06.pdf; ComponentLink3Description: Package Specification; ComponentLink3URL: http://www.ti.com/lit/ml/mtqf006a/mtqf006a.pdf
footprint TI-PAG64_N (QFP, 64-Leads, Body 10x10mm, Pitch 0.5mm, IPC Medium Density)
footprint TI-PAG64_L (QFP, 64-Leads, Body 10x10mm, Pitch 0.5mm, IPC High Density)
footprint TI-PAG64_M (QFP, 64-Leads, Body 10x10mm, Pitch 0.5mm, IPC Low Density)
part A pins: 5 IN6N (in) "Differential analog negative input 6 (ADS131E06 and ADS131E08 only)", 6 IN6P (in) "Differential analog positive input 6 (ADS131E06 and ADS131E08 only)", 7 IN5N (in) "Differential analog negative input 5 (ADS131E06 and ADS131E08 only)", 8 IN5P (in) "Differential analog positive input 5 (ADS131E06 and ADS131E08 only)", 9 IN4N (in) "Differential analog negative input 4", 10 IN4P (in) "Differential analog positive input 4", 11 IN3N (in) "Differential analog negative input 3", 12 IN3P (in) "Differential analog positive input 3", 13 IN2N (in) "Differential analog negative input 2", 14 IN2P (in) "Differential analog positive input 2", 15 IN1N (in) "Differential analog negative input 1", 16 IN1P (in) "Differential analog positive input 1", 17 TESTP (in) "Internal test signal, positive signal", 18 TESTN (in) "Internal test signal, negative signal", 24 VREFP (in) "Positive reference voltage", 25 VREFN (in) "Negative reference voltage", 26 VCAP4 "Analog bypass capacitor", 28 VCAP1 "Analog bypass capacitor", 30 VCAP2 "Analog bypass capacitor", 34 DIN (in) "SPI data in", 35 ~{PWDN} (in) "Power-down; active low", 36 ~{RESET} (in) "System reset; active low", 37 CLK (in) "Master clock input", 38 START (in) "Start conversion", 39 ~{CS} (in) "SPI chip select; active low", 40 SCLK (in) "SPI clock", 41 DAISY_IN (in) "Daisy-chain input", 42 GPIO1 (io) "General-purpose input/output pin", 43 DOUT (hiz) "SPI data out", 44 GPIO2 (io) "General-purpose input/output pin", 45 GPIO3 (io) "General-purpose input/output pin", 46 GPIO4 (io) "General-purpose input/output pin", 47 ~{DRDY} (out) "Data ready; active low", 52 CLKSEL (in) "Master clock select", 55 VCAP3 "Analog bypass capacitor", 60 OPAMPP (in) "Op amp noninverting input", 61 OPAMPN (in) "Op amp inverting input", 63 OPAMPOUT (out) "Op amp output"
part B pins: 19 AVDD (power) "Analog supply", 20 AVSS (power) "Analog ground", 21 AVDD (power) "Analog supply", 22 AVDD (power) "Analog supply", 23 AVSS (power) "Analog ground", 31 RESV1 (power) "Reserved for future use; must tie to logic low (DGND)", 32 AVSS (power) "Analog ground", 33 DGND (power) "Digital ground", 48 DVDD (power) "Digital power supply", 49 DGND (power) "Digital ground", 50 DVDD (power) "Digital power supply", 51 DGND (power) "Digital ground", 53 AVSS1 (power) "Charge pump analog ground", 54 AVDD1 (power) "Charge pump analog supply", 56 AVDD (power) "Analog supply", 57 AVSS (power) "Analog ground", 58 AVSS (power) "Analog ground", 59 AVDD (power) "Analog supply"
part C pins: 1 NC "No connection, leave floating", 2 NC "No connection, leave floating", 3 NC "No connection, leave floating", 4 NC "No connection, leave floating", 27 NC "No connection, leave floating", 29 NC "No connection, leave floating", 62 NC "No connection, leave floating", 64 NC "No connection, leave floating"

## ADS131E06IPAGR
designator U?
Analog Front-End for Power Monitoring, Control and Protection, -40 to 105 degC, 64-pin QFP (PAG64), Green (RoHS & no Sb/Br); Manufacturer: Texas Instruments; PartNumber: ADS131E06IPAGR; # Input Channels: 6; Analog Voltage AV/DD(Max)(V): 5.25; Analog Voltage AV/DD(Min)(V): 2.7; Architecture: Delta-Sigma; Digital Supply(Max)(V): 3.6; Digital Supply(Min)(V): 1.8; Interface: Serial SPI; Resolution(Bits): 16; Sample Rate(max)(SPS): 64k; SNR(dB): 107; SubFamily: Precision ADC (<=10MSPS); DatasheetVersion: SBAS561A; PackageVersion: 4040282/C, 11/1996; PackageReference: PAG64; PackageDescription: 64-Pin Plastic Flat Pack, Body 10 x 10 mm, Pitch 0.50 mm; Supplier 1: Digi-Key; Supplier Part Number 1: ADS1110A7IDBVR-ND; Supplier 2: Mouser; Supplier Part Number 2: 595-ADS1110A7IDBVR; Eco-Plan: Green (RoHS & no Sb/Br); Mounting Technology: Surface Mount; Code_JEDEC: MS-026; ComponentLink1Description: Manufacturer URL; ComponentLink1URL: http://www.ti.com/; ComponentLink2Description: Datasheet; ComponentLink2URL: http://www.ti.com/lit/ds/symlink/ads131e06.pdf; ComponentLink3Description: Package Specification; ComponentLink3URL: http://www.ti.com/lit/ml/mtqf006a/mtqf006a.pdf
footprint TI-PAG64_N (QFP, 64-Leads, Body 10x10mm, Pitch 0.5mm, IPC Medium Density)
footprint TI-PAG64_L (QFP, 64-Leads, Body 10x10mm, Pitch 0.5mm, IPC High Density)
footprint TI-PAG64_M (QFP, 64-Leads, Body 10x10mm, Pitch 0.5mm, IPC Low Density)
part A pins: 5 IN6N (in) "Differential analog negative input 6 (ADS131E06 and ADS131E08 only)", 6 IN6P (in) "Differential analog positive input 6 (ADS131E06 and ADS131E08 only)", 7 IN5N (in) "Differential analog negative input 5 (ADS131E06 and ADS131E08 only)", 8 IN5P (in) "Differential analog positive input 5 (ADS131E06 and ADS131E08 only)", 9 IN4N (in) "Differential analog negative input 4", 10 IN4P (in) "Differential analog positive input 4", 11 IN3N (in) "Differential analog negative input 3", 12 IN3P (in) "Differential analog positive input 3", 13 IN2N (in) "Differential analog negative input 2", 14 IN2P (in) "Differential analog positive input 2", 15 IN1N (in) "Differential analog negative input 1", 16 IN1P (in) "Differential analog positive input 1", 17 TESTP (in) "Internal test signal, positive signal", 18 TESTN (in) "Internal test signal, negative signal", 24 VREFP (in) "Positive reference voltage", 25 VREFN (in) "Negative reference voltage", 26 VCAP4 "Analog bypass capacitor", 28 VCAP1 "Analog bypass capacitor", 30 VCAP2 "Analog bypass capacitor", 34 DIN (in) "SPI data in", 35 ~{PWDN} (in) "Power-down; active low", 36 ~{RESET} (in) "System reset; active low", 37 CLK (in) "Master clock input", 38 START (in) "Start conversion", 39 ~{CS} (in) "SPI chip select; active low", 40 SCLK (in) "SPI clock", 41 DAISY_IN (in) "Daisy-chain input", 42 GPIO1 (io) "General-purpose input/output pin", 43 DOUT (hiz) "SPI data out", 44 GPIO2 (io) "General-purpose input/output pin", 45 GPIO3 (io) "General-purpose input/output pin", 46 GPIO4 (io) "General-purpose input/output pin", 47 ~{DRDY} (out) "Data ready; active low", 52 CLKSEL (in) "Master clock select", 55 VCAP3 "Analog bypass capacitor", 60 OPAMPP (in) "Op amp noninverting input", 61 OPAMPN (in) "Op amp inverting input", 63 OPAMPOUT (out) "Op amp output"
part B pins: 19 AVDD (power) "Analog supply", 20 AVSS (power) "Analog ground", 21 AVDD (power) "Analog supply", 22 AVDD (power) "Analog supply", 23 AVSS (power) "Analog ground", 31 RESV1 (power) "Reserved for future use; must tie to logic low (DGND)", 32 AVSS (power) "Analog ground", 33 DGND (power) "Digital ground", 48 DVDD (power) "Digital power supply", 49 DGND (power) "Digital ground", 50 DVDD (power) "Digital power supply", 51 DGND (power) "Digital ground", 53 AVSS1 (power) "Charge pump analog ground", 54 AVDD1 (power) "Charge pump analog supply", 56 AVDD (power) "Analog supply", 57 AVSS (power) "Analog ground", 58 AVSS (power) "Analog ground", 59 AVDD (power) "Analog supply"
part C pins: 1 NC "No connection, leave floating", 2 NC "No connection, leave floating", 3 NC "No connection, leave floating", 4 NC "No connection, leave floating", 27 NC "No connection, leave floating", 29 NC "No connection, leave floating", 62 NC "No connection, leave floating", 64 NC "No connection, leave floating"

## ADS131E08IPAG
designator U?
Analog Front-End for Power Monitoring, Control and Protection, -40 to 105 degC, 64-pin QFP (PAG64), Green (RoHS & no Sb/Br); Manufacturer: Texas Instruments; PartNumber: ADS131E08IPAG; # Input Channels: 8; Analog Voltage AV/DD(Max)(V): 5.25; Analog Voltage AV/DD(Min)(V): 2.7; Architecture: Delta-Sigma; Digital Supply(Max)(V): 3.6; Digital Supply(Min)(V): 1.8; Interface: Serial SPI; Resolution(Bits): 16; Sample Rate(max)(SPS): 64k; SNR(dB): 107; SubFamily: Precision ADC (<=10MSPS); DatasheetVersion: SBAS561A; PackageVersion: 4040282/C, 11/1996; PackageReference: PAG64; PackageDescription: 64-Pin Plastic Flat Pack, Body 10 x 10 mm, Pitch 0.50 mm; Supplier 1: Digi-Key; Supplier Part Number 1: ADS1110A7IDBVRG4-ND; Supplier 2: Mouser; Supplier Part Number 2: 595-ADS1110A7IDBVRG4; Eco-Plan: Green (RoHS & no Sb/Br); Mounting Technology: Surface Mount; Code_JEDEC: MS-026; ComponentLink1Description: Manufacturer URL; ComponentLink1URL: http://www.ti.com/; ComponentLink2Description: Datasheet; ComponentLink2URL: http://www.ti.com/lit/ds/symlink/ads131e08.pdf; ComponentLink3Description: Package Specification; ComponentLink3URL: http://www.ti.com/lit/ml/mtqf006a/mtqf006a.pdf
footprint TI-PAG64_N (QFP, 64-Leads, Body 10x10mm, Pitch 0.5mm, IPC Medium Density)
footprint TI-PAG64_L (QFP, 64-Leads, Body 10x10mm, Pitch 0.5mm, IPC High Density)
footprint TI-PAG64_M (QFP, 64-Leads, Body 10x10mm, Pitch 0.5mm, IPC Low Density)
part A pins: 1 IN8N (in) "Differential analog negative input 8", 2 IN8P (in) "Differential analog positive input 8", 3 IN7N (in) "Differential analog negative input 7", 4 IN7P (in) "Differential analog positive input 7", 5 IN6N (in) "Differential analog negative input 6", 6 IN6P (in) "Differential analog positive input 6", 7 IN5N (in) "Differential analog negative input 5", 8 IN5P (in) "Differential analog positive input 5", 9 IN4N (in) "Differential analog negative input 4", 10 IN4P (in) "Differential analog positive input 4", 11 IN3N (in) "Differential analog negative input 3", 12 IN3P (in) "Differential analog positive input 3", 13 IN2N (in) "Differential analog negative input 2", 14 IN2P (in) "Differential analog positive input 2", 15 IN1N (in) "Differential analog negative input 1", 16 IN1P (in) "Differential analog positive input 1", 17 TESTP (in) "Internal test signal, positive signal", 18 TESTN (in) "Internal test signal, negative signal", 24 VREFP (in) "Positive reference voltage", 25 VREFN (in) "Negative reference voltage", 26 VCAP4 "Analog bypass capacitor", 28 VCAP1 "Analog bypass capacitor", 30 VCAP2 "Analog bypass capacitor", 34 DIN (in) "SPI data in", 35 ~{PWDN} (in) "Power-down; active low", 36 ~{RESET} (in) "System reset; active low", 37 CLK (in) "Master clock input", 38 START (in) "Start conversion", 39 ~{CS} (in) "SPI chip select; active low", 40 SCLK (in) "SPI clock", 41 DAISY_IN (in) "Daisy-chain input", 42 GPIO1 (io) "General-purpose input/output pin", 43 DOUT (hiz) "SPI data out", 44 GPIO2 (io) "General-purpose input/output pin", 45 GPIO3 (io) "General-purpose input/output pin", 46 GPIO4 (io) "General-purpose input/output pin", 47 ~{DRDY} (out) "Data ready; active low", 52 CLKSEL (in) "Master clock select", 55 VCAP3 "Analog bypass capacitor", 60 OPAMPP (in) "Op amp noninverting input", 61 OPAMPN (in) "Op amp inverting input", 63 OPAMPOUT (out) "Op amp output"
part B pins: 19 AVDD (power) "Analog supply", 20 AVSS (power) "Analog ground", 21 AVDD (power) "Analog supply", 22 AVDD (power) "Analog supply", 23 AVSS (power) "Analog ground", 31 RESV1 (power) "Reserved for future use; must tie to logic low (DGND)", 32 AVSS (power) "Analog ground", 33 DGND (power) "Digital ground", 48 DVDD (power) "Digital power supply", 49 DGND (power) "Digital ground", 50 DVDD (power) "Digital power supply", 51 DGND (power) "Digital ground", 53 AVSS1 (power) "Charge pump analog ground", 54 AVDD1 (power) "Charge pump analog supply", 56 AVDD (power) "Analog supply", 57 AVSS (power) "Analog ground", 58 AVSS (power) "Analog ground", 59 AVDD (power) "Analog supply"
part C pins: 27 NC "No connection, leave floating", 29 NC "No connection, leave floating", 62 NC "No connection, leave floating", 64 NC "No connection, leave floating"